# Altium footprint library buzzer.PcbLib: 1 footprints
Each footprint in its own frame and in the unit in brackets; x right, y up, seen from the top. Pads: shape width x height; smd on the part's side, far side on the other; paste and mask are expansions set on the pad; w line width, h text height; cw(c..) or ccw(c..) is an arc to the next point about the centre after c.
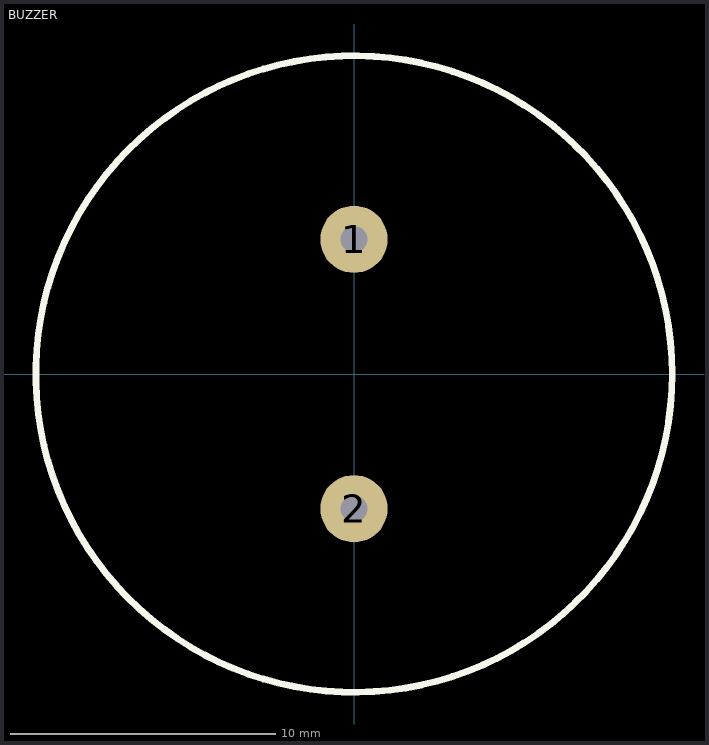
[diagram p0: the footprint, top view; thin cyan lines are the x and y axes]

## BUZZER [mm]
pads (2):
  round 2.54 hole 1: 1(0,5.08) 2(0,-5.08)
Top Overlay:
  circle w0.254: c0,0 r12
3D body "buzzer.step": height 6.7, standoff -3.5, extent -12,-12 12,12